# Altium schematic symbol library controller_8266.SchLib: 29 symbols
Pins are listed as number, name and electrical type; pins without a type are passive.

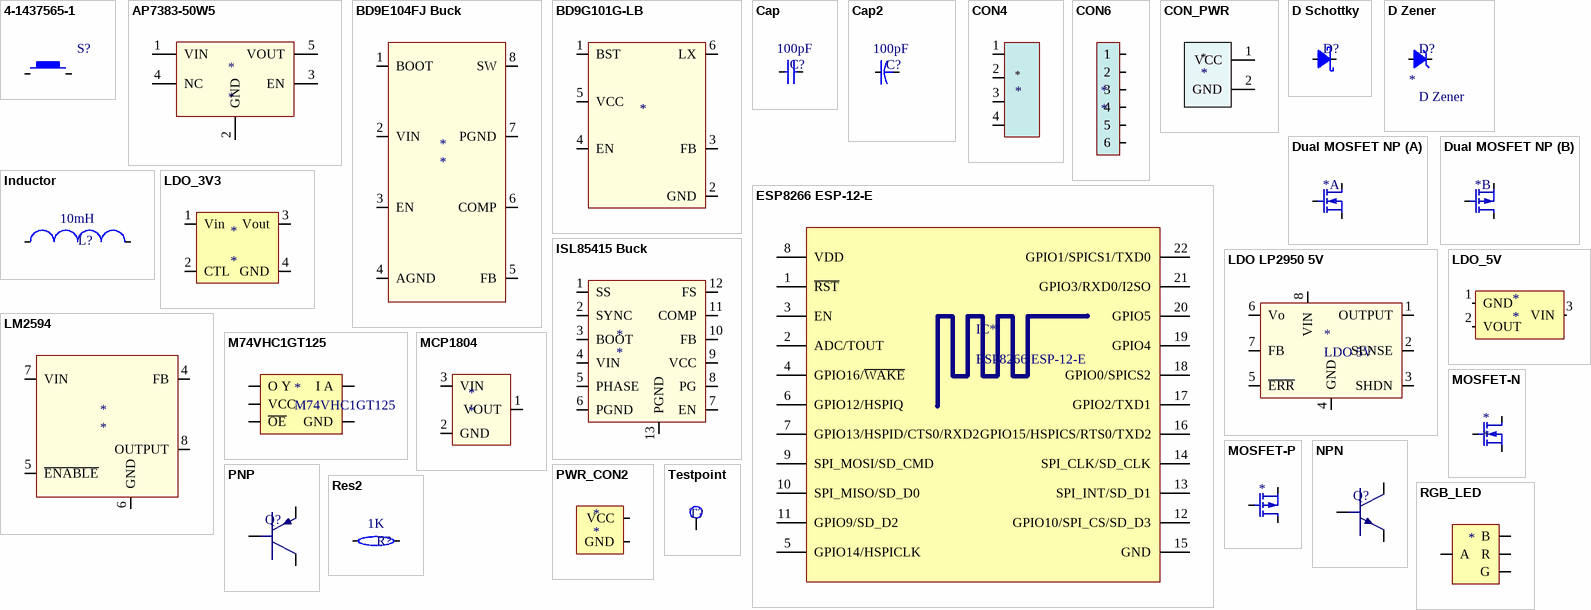
[diagram p0: symbols 4-1437565-1 to Testpoint]

## 4-1437565-1
designator S?  (value not drawn)
6x6mm SMD tactile switch,5mm H 1.6N Black Button Tactile Switch, SPST-NO 0.05 A@ 12 V dc 1.4mm; Manufacturer_Name: TE Connectivity; Allied_Number: R1117787; RS Part Number: 1616046; Manufacturer_Part_Number: 4-1437565-1; Datasheet Link: http://uk.rs-online.com/web/p/products/1616046
footprint FSM-SWITCH
footprint EVQP7C01P (Side actuated tactile switch)
pins: 1, 2

## AP7383-50W5
designator *
footprint SOT65P210X100-5L (SOT23, 5-Leads, Body 2.00x2.10mm, Pitch 0.65mm, IPC High Density)
pins: 1 VIN, 2 GND, 3 EN, 4 NC, 5 VOUT

## BD9E104FJ Buck
designator *
footprint TSOP127P600X148-8L (TSOP, 8-Leads, Body 4.90x3.90mm, Pitch 1.27mm, IPC High Density)
pins: 1 BOOT, 2 VIN, 3 EN, 4 AGND, 5 FB, 6 COMP, 7 PGND, 8 SW

## BD9G101G-LB
designator *, comment Non-sync buck  (value not drawn)
footprint TSOP95P280X125-6L (TSOP, 6-Leads, Body 2.90x1.65mm, Pitch 0.95mm, IPC High Density)
pins: 1 BST, 2 GND, 3 FB, 4 EN, 5 VCC, 6 LX

## Cap
designator C?  value 100pF  (hidden comment: Cap)
Capacitor; Published: 8-Jun-2000; LatestRevisionDate: 17-Jul-2002; LatestRevisionNote: Re-released for DXP Platform.; PackageReference: RAD-0.3; Publisher: Altium Limited; PackageDescription: Radial Cap, Thru-Hole; 2 Leads; 0.3 in Pin Spacing
footprint CAPC_1206_3216X16L (Chip Capacitor 1206)
footprint CAPC_0603_1608X08L (Chip Capacitor 0603)
footprint CAPC3224X25L (Chip Capacitor, 2-Leads, Body 3.20x2.45mm, IPC High Density)
pins: 1, 2

## Cap2
designator C?  value 100pF
Capacitor; Published: 23-Sep-2002; PackageReference: CAPR5-4X5; Publisher: Altium Limited; PackageDescription: Capacitor; 2 Leads
footprint CAPAE10083X104N (Aluminum Electrolytic Capacitor, Body 8.30x8.30x10.40mm, IPC Medium Density)
pins: 1, 2

## CON4
designator *  (no BOM)
Header 4 way
footprint CONNECTOR
pins: 1 "TP", 2 "TP", 3 "TP", 4 "TP"

## CON6
designator *  (no BOM)
Debug header 6 way
footprint CON2X3 (2x3 2.54mm)
pins: 1, 2, 3, 4, 5, 6

## CON_PWR
designator *  (no BOM)
Header 2 way
footprint CONPWR
pins: 1 VCC "TP", 2 GND "TP"

## D Schottky
designator D?  (value not drawn)
Schottky Diode; Published: 8-Jun-2000; LatestRevisionDate: 17-Jul-2002; LatestRevisionNote: Re-released for DXP Platform.; PackageReference: SMB; Publisher: Altium Limited; PackageDescription: DO-214-AA/SMB; 2 C-Bend Leads; Body 5.3 x 3.6 mm, inc. leads (LxW); Code_JEDEC: DO-214-AA
footprint SODFL470X110-2L (SODFL, 2-Leads, Body 2.50x4.70mm, IPC High Density)
footprint DFN65P100X30-2L (DFN, 2-Leads, Body 0.60x1.00mm, Pitch 0.65mm, IPC High Density)
footprint SODFL127P600-8N (SOD-128)
footprint CDBA-G-L
pins: 1 A, 2 K

## D Zener
designator D?
Schottky Diode; Published: 8-Jun-2000; LatestRevisionDate: 17-Jul-2002; LatestRevisionNote: Re-released for DXP Platform.; PackageReference: SMB; Publisher: Altium Limited; PackageDescription: DO-214-AA/SMB; 2 C-Bend Leads; Body 5.3 x 3.6 mm, inc. leads (LxW); Code_JEDEC: DO-214-AA; Vz: *
footprint DIOM6859X25L (Molded Diode, 2-Leads, Body 6.85x5.85mm, IPC High Density)
footprint SODFL350X120-2L (SODFL, 2-Leads, Body 1.60x3.50mm, IPC High Density)
pins: 1 A, 2 K

## Dual MOSFET NP
designator *  (value not drawn)
footprint SOT65P210X110-6L (SOT23, 6-Leads, Body 2.00x2.10mm, Pitch 0.65mm, IPC High Density)
part A pins: 1 S1, 2 G1, 6 D1
part B pins: 3 D2, 4 S2, 5 G2

## ESP8266 ESP-12-E
designator IC*
footprint ESP8266 ESP-12-E
pins: 1 ~{RST} "Reset", 2 ADC/TOUT "ADC Input Or TOUT Output", 3 EN "Chip enable", 4 GPIO16/~{WAKE} "GPIO16 or Deep-Sleep Wakeup", 5 GPIO14/HSPICLK "GPIO14 or SPI CLK", 6 GPIO12/HSPIQ "GPIO12 or SPIQ", 7 GPIO13/HSPID/CTS0/RXD2 "GPIO13 or SPID", 8 VDD "Power supply", 9 SPI_MOSI/SD_CMD "GPIO14 or SPI CLK", 10 SPI_MISO/SD_D0 "GPIO12 or SPIQ", 11 GPIO9/SD_D2 "GPIO13 or SPID", 12 GPIO10/SPI_CS/SD_D3 "GPIO15 or SPICS", 13 SPI_INT/SD_D1 "GPIO2 or TX", 14 SPI_CLK/SD_CLK "GPIO0 or SPICS2", 15 GND "Power ground", 16 GPIO15/HSPICS/RTS0/TXD2 "GPIO15 or SPICS", 17 GPIO2/TXD1 "GPIO2 or TX", 18 GPIO0/SPICS2 "GPIO0 or SPICS2", 19 GPIO4 "GPIO5", 20 GPIO5 "GPIO4", 21 GPIO3/RXD0/I2SO "GPIO3 or UART RXD or I2SO", 22 GPIO1/SPICS1/TXD0 "GPIO1 or UART TXD"

## Inductor
designator L?  value 10mH
Inductor; Code_IEC: 1005; Published: 8-Jun-2000; LatestRevisionDate: 29-May-2009; LatestRevisionNote: IPC-7351 Footprint Added.; PackageReference: 0402-A; Publisher: Altium Limited; PackageDescription: Chip Inductor; Code_JEITA: 0402
footprint INDP6360X48L (Precision Wire Wound Inductor, 2-Leads, Body 6.30x6.00mm, IPC High Density)
footprint INDP5150X20L (Precision Wire Wound Inductor, 2-Leads, Body 5.15x5.00mm, IPC High Density)
footprint INDP4949X30N (Precision Wire Wound Inductor, 2-Leads, Body 4.90x4.90mm, IPC Medium Density)
pins: 1, 2

## ISL85415 Buck
designator *
footprint PQFN50P400X300X100_HS-13L (PQFN, 12-Leads, Body 4.00x3.00mm, Pitch 0.50mm, Thermal Pad 3.28x1.73mm, IPC High Density)
pins: 1 SS, 2 SYNC, 3 BOOT, 4 VIN, 5 PHASE, 6 PGND, 7 EN, 8 PG, 9 VCC, 10 FB, 11 COMP, 12 FS, 13 PGND

## LDO LP2950 5V
designator *, comment LDO 5V
footprint Micro8 TSOP (TSOP, 8-Leads)
pins: 1 OUTPUT, 2 SENSE, 3 SHDN, 4 GND, 5 ~{ERR}, 6 Vo, 7 FB, 8 VIN

## LDO_3V3
designator *
3.3v LDO
footprint SOT230P700X180-4N (SOT223, 4-Leads, Body 6.50x7.00mm (avg), Pitch 2.30mm, IPC Medium Density)
pins: 1 Vin, 2 CTL, 3 Vout, 4 GND

## LDO_5V
designator *
5V LDO
footprint SOT23 (SOT23, 3-Leads, Body 2.90x2.45mm, Pitch 0.95mm, IPC High Density)
pins: 1 GND, 2 VOUT, 3 VIN

## LM2594
designator *
footprint SOIC127P600X175-8L (SOIC, 8-Leads, Body 4.90x3.90mm, Pitch 1.27mm, IPC High Density)
pins: 1 NC hidden, 2 NC hidden, 3 NC hidden, 4 FB, 5 ~{ENABLE}, 6 GND, 7 VIN, 8 OUTPUT

## M74VHC1GT125
designator *
Level shifter non inverting
footprint SOT95P285X130-5N (SOT23, 5-Leads, Body 3.00x2.85mm, Pitch 0.95mm, IPC Medium Density)
pins: 1 ~{OE}, 2 I A, 3 GND, 4 O Y, 5 VCC

## MCP1804
designator *
footprint SOT89-150P409X160-3L (SOT89, 3-Leads, Body 4.50x2.45mm, Pitch 1.50mm, Lead Span 4.1mm, IPC High Density)
pins: 1 VOUT, 2 GND, 3 VIN

## MOSFET-N
designator *
footprint SOT23 (SOT23, 3-Leads, Body 2.90x2.45mm, Pitch 0.95mm, IPC High Density)
footprint DPAK127P600X120-5L (TO, 5-Pads, Body 5.20x5.86mm (max), IPC High Density); pin to pad 1>2 2>1
pins: 1 G, 2 S, 3 D

## MOSFET-P
designator *  (value not drawn)
footprint SOT23 (SOT23, 3-Leads, Body 2.90x2.45mm, Pitch 0.95mm, IPC High Density)
footprint DPAK127P600X120-5L (TO, 5-Pads, Body 5.20x5.86mm (max), IPC High Density); pin to pad 1>2 3>1
footprint TO-220 (3 pin)
footprint DPAK229P994X241-3L (D-PAK, 3-Pads, Body 6.21x6.73mm (max), IPC High Density)
pins: 1 G, 2 D, 3 S

## NPN
designator Q?  (value not drawn)
pins: 9, 10, 11

## PNP
designator Q?  (value not drawn)
pins: 9, 10, 11

## PWR_CON2
designator *  (no BOM)
Header 2 way
footprint PWR_CON2
pins: 1 VCC (power), 2 GND

## Res2
designator R?  value 1K  (hidden comment: Res2)
Resistor; Published: 8-Jun-2000; LatestRevisionDate: 17-Jul-2002; LatestRevisionNote: Re-released for DXP Platform.; PackageReference: AXIAL-0.4; Publisher: Altium Limited; PackageDescription: Axial Device, Thru-Hole; 2 Leads; 0.4 in Pin Spacing
footprint RESC_0603_1608X08L (Chip Resistor, 2-Leads, Body 1.60x0.80mm, IPC High Density)
footprint RESC6432X12L (Chip Resistor, 2-Leads, Body 6.35x3.20mm, IPC High Density)
pins: 1, 2

## RGB_LED
designator *, comment RGB LED Common anode  (value not drawn)
Dot is _not_ anode!
footprint PLCC-4 (LED)
pins: A, B, G, R

## Testpoint
designator T?  (value not drawn)  (no BOM)
footprint TESTPOINT
pins: 1 VOUT